# Altium footprint library GREEN-LED-SMD.PcbLib: 1 footprints
Each footprint in its own frame and in the unit in brackets; x right, y up, seen from the top. Pads: shape width x height; smd on the part's side, far side on the other; paste and mask are expansions set on the pad; w line width, h text height; cw(c..) or ccw(c..) is an arc to the next point about the centre after c.
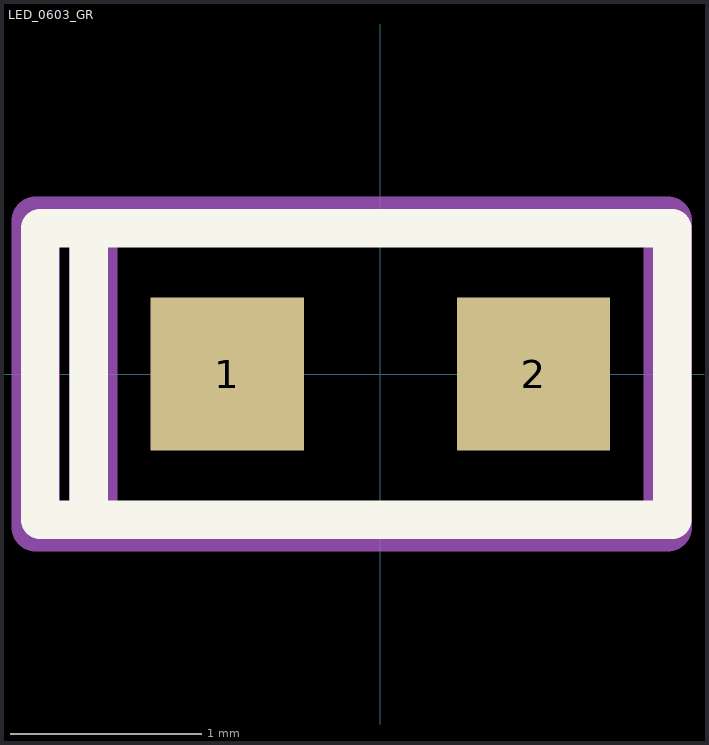
[diagram p0: the footprint, top view; thin cyan lines are the x and y axes]

## LED_0603_GR [mm]
pads (2):
  rect 0.8x0.8 smd: 1(-0.8,0) 2(0.8,0)
Top Overlay:
  lines w0.2: -1.524,-0.762 -1.524,0.762 ; -1.778,-0.762 -1.778,0.762 1.524,0.762 1.524,-0.762 -1.778,-0.762
Mechanical 29:
  lines w0.254: -1.5,-0.8 -1.5,0.8 ; -1.8,-0.8 1.5,-0.8 1.5,0.8 -1.8,0.8 -1.8,-0.8
  text ".Designator" at -1.1,-0.3 h0.6
3D body: height 0.66, standoff 0.5, extent -0.2,-0.2 0.2,0.2
3D body "LED SMD 0603.step": height 0.65, standoff 0, extent -0.85,-0.4 0.85,0.4